# EAGLE library part ESP-WROOM-S2 (library esp-wroom)
WiFi Modules (802.11) ESP-WROOM-S2, SMD Module, ESP8266EX, 16Mbits SPI Flash, SPI Mode
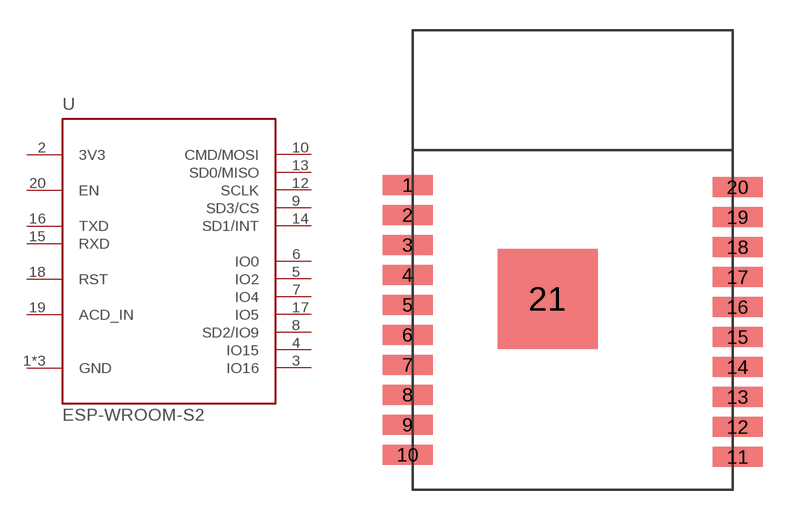
[diagram p0: symbol with the pads of ESP-WROOM-S2; footprint ESP-WROOM-S2]

Designator prefix U

## ESP-WROOM-S2 (MOUSER: 356-ESP-WROOM-S2)  [ESP-WROOM-S2]
1  GND
2  3V3
3  IO16
4  IO15
5  IO2
6  IO0
7  IO4
8  SD2/IO9
9  SD3/CS
10  CMD/MOSI
11  GND
12  SCLK
13  SD0/MISO
14  SD1/INT
15  RXD
16  TXD
17  IO5
18  RST
19  ACD_IN
20  EN
21  GND

## Footprint ESP-WROOM-S2 (pad centres in mm)
smd 2.5 x 1: 1 -0.25,15.25; 2 -0.25,13.75; 3 -0.25,12.25; 4 -0.25,10.75; 5 -0.25,9.25; 6 -0.25,7.75; 7 -0.25,6.25; 8 -0.25,4.75; 9 -0.25,3.25; 10 -0.25,1.75; 11 16.25,1.64; 12 16.25,3.14; 13 16.25,4.64; 14 16.25,6.14; 15 16.25,7.64; 16 16.25,9.14; 17 16.25,10.64; 18 16.25,12.14; 19 16.25,13.64; 20 16.25,15.14
smd 5 x 5: 21 6.75,9.55